# Altium schematic symbol library ACS723LLCTR-10AU-T.SchLib: 1 symbol
Pins are listed as number, name and electrical type; pins without a type are passive.

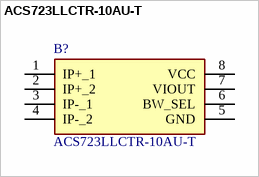
[diagram p0: symbol ACS723LLCTR-10AU-T]

## ACS723LLCTR-10AU-T
designator B?
High Accuracy 5V Optimized Current Sensor IC; Manufacturer_Name: Allegro Microsystems; Geometry.Height: 1.75mm; Manufacturer_Part_Number: ACS723LLCTR-10AU-T; Mouser Part Number: 250-723LLCTR10AUT; Mouser Price/Stock: https://www.mouser.co.uk/ProductDetail/Allegro-MicroSystems/ACS723LLCTR-10AU-T?qs=pUKx8fyJudBwQc%2FSh6J%2FyA%3D%3D; Arrow Part Number: ACS723LLCTR-10AU-T; Arrow Price/Stock: https://www.arrow.com/en/products/acs723llctr-10au-t/allegro-microsystems?region=europe; Datasheet Link: https://www.allegromicro.com/-/media/files/datasheets/acs723-datasheet.ashx
footprint SOIC127P600X175-8N
pins: 1 IP+_1, 2 IP+_2, 3 IP-_1, 4 IP-_2, 5 GND, 6 BW_SEL, 7 VIOUT, 8 VCC